# Altium schematic symbol library SCH - FET - N-CH - NEXPERIA PSMN LFPAK MOSFET N-CH.SCHLIB: 1 symbol
Pins are listed as number, name and electrical type; pins without a type are passive.

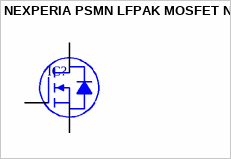
[diagram p0: symbol NEXPERIA PSMN LFPAK MOSFET N-CH]

## NEXPERIA PSMN LFPAK MOSFET N-CH
designator IC?
pins: 1 S, 2 S, 3 S, 4 G, 5 D